# EAGLE library part ATTINY87 (library sjg-avr)
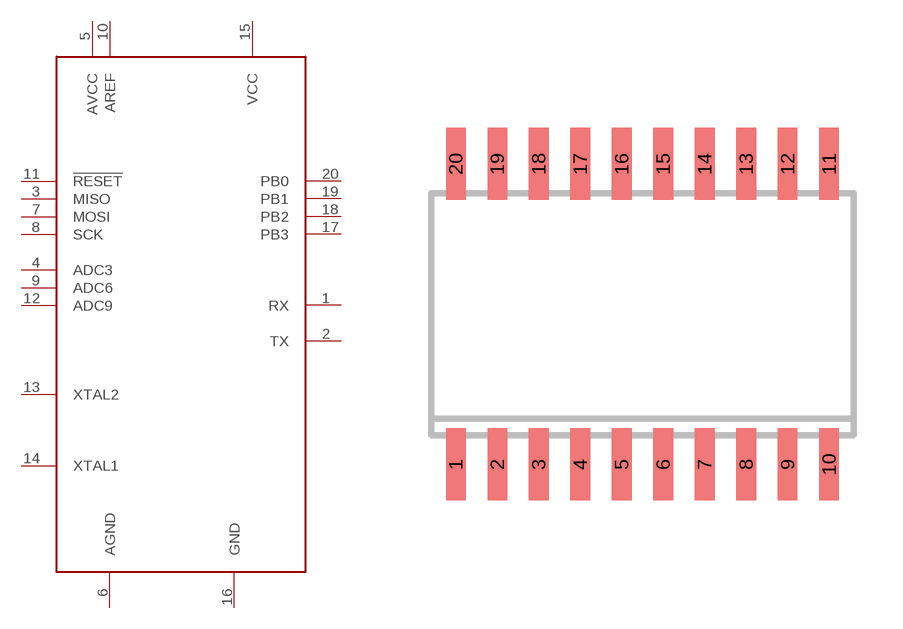
[diagram p0: symbol with the pads of SO20W; footprint SO20W]

Designator prefix -

## ATTINY87  [SO20W]
1  RX
2  TX
3  MISO
4  ADC3
5  AVCC
6  AGND
7  MOSI
8  SCK
9  ADC6
10  AREF
11  !RESET!
12  ADC9
13  XTAL2
14  XTAL1
15  VCC
16  GND
17  PB3
18  PB2
19  PB1
20  PB0

## Footprint SO20W (pad centres in mm)
SMALL OUTLINE INTEGRATED CIRCUIT wide body 7.5 mm/JEDEC MS-013AC
smd 0.6 x 2.2: 1 -5.715,-4.6; 2 -4.445,-4.6; 3 -3.175,-4.6; 4 -1.905,-4.6; 5 -0.635,-4.6; 6 0.635,-4.6; 7 1.905,-4.6; 8 3.175,-4.6; 9 4.445,-4.6; 10 5.715,-4.6; 11 5.715,4.6; 12 4.445,4.6; 13 3.175,4.6; 14 1.905,4.6; 15 0.635,4.6; 16 -0.635,4.6; 17 -1.905,4.6; 18 -3.175,4.6; 19 -4.445,4.6; 20 -5.715,4.6